# Altium schematic symbol library 39281063.SchLib: 1 symbol
Pins are listed as number, name and electrical type; pins without a type are passive.

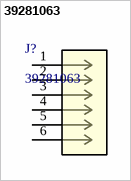
[diagram p0: symbol 39281063]

## 39281063
designator J?
Mini-Fit Jr. Vertical Header, 4.20mm Pitch, Dual Row, 6 Circuits, without Snap-in Plastic Peg PCB Lock, Tin, Natural; Manufacturer_Name: Molex Connector Corporation; Copyright: Copyright (C) 2025 Ultra Librarian. All rights reserved.; Manufacturer_Part_Number: 39281063; RefDes: RefDes; Type: Type
footprint CONN_SD-5566-002_06_MOL
pins: 1, 2, 3, 4, 5, 6